# Altium footprint library WL-SFCC.PcbLib: 2 footprints
Each footprint in its own frame and in the unit in brackets; x right, y up, seen from the top. Pads: shape width x height; smd on the part's side, far side on the other; paste and mask are expansions set on the pad; w line width, h text height; cw(c..) or ccw(c..) is an arc to the next point about the centre after c.
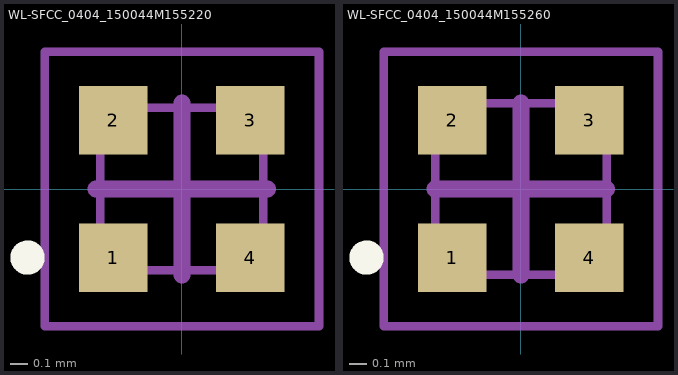
[diagram p0: the footprints below, top view; thin cyan lines are the x and y axes]

## WL-SFCC_0404_150044M155220 [mm] "SMT Full-color Chip LED Compact, body 0.95 x 0.95mm"
height 0.25
pads (4):
  rect 0.4x0.4 smd: 1(-0.4,-0.4) 2(-0.4,0.4) 3(0.4,0.4) 4(0.4,-0.4)
Top Overlay:
  circle w0.1: c-0.9,-0.4 r0.05
Top Assembly:
  lines w0.05: -0.475,-0.225 -0.225,-0.475 ; -0.475,-0.475 0.475,-0.475 0.475,0.475 -0.475,0.475 -0.475,-0.475
Top Designator:
  text ".Designator" at -3.647,-0.357 h1
Top Courtyard:
  lines w0.05: -0.8,-0.8 0.8,-0.8 0.8,0.8 -0.8,0.8 -0.8,-0.8
Top Component Center:
  lines w0.1: -0.5,0 0.5,0 ; 0,-0.5 0,0.5
3D body "150044M155220_STP (rev1).stp": height 0.26, standoff 0.01, extent -0.475,-0.475 0.475,0.475

## WL-SFCC_0404_150044M155260 [mm] "SMT Full-color Chip LED Compact, body 1.00 x 1.00mm"
height 0.65
pads (4):
  rect 0.4x0.4 smd: 1(-0.4,-0.4) 2(-0.4,0.4) 3(0.4,0.4) 4(0.4,-0.4)
Top Overlay:
  circle w0.1: c-0.9,-0.4 r0.05
Top Assembly:
  lines w0.05: -0.5,-0.25 -0.25,-0.5 ; -0.5,-0.5 0.5,-0.5 0.5,0.5 -0.5,0.5 -0.5,-0.5
Top Designator:
  text ".Designator" at -3.647,-0.357 h1
Top Courtyard:
  lines w0.05: -0.8,-0.8 -0.8,0.8 0.8,0.8 0.8,-0.8 -0.8,-0.8
Top Component Center:
  lines w0.1: -0.5,0 0.5,0 ; 0,-0.5 0,0.5
3D body "150044M175200.stp": height 0.65, standoff 0, extent -0.5,-0.5 0.5,0.5